# EAGLE library part USB4500-03-0-A (library USB4500-03-0-A)
GCT (GLOBAL CONNECTOR TECHNOLOGY) - USB4500-03-0-A - USB Connector, USB Type C, USB 2.0, Receptacle, 16 Ways, Surface Mount, Through Hole Mount Source: Datasheet <https://componentsearchengine.com/Datasheets/2/USB4500-03-0-A.pdf>
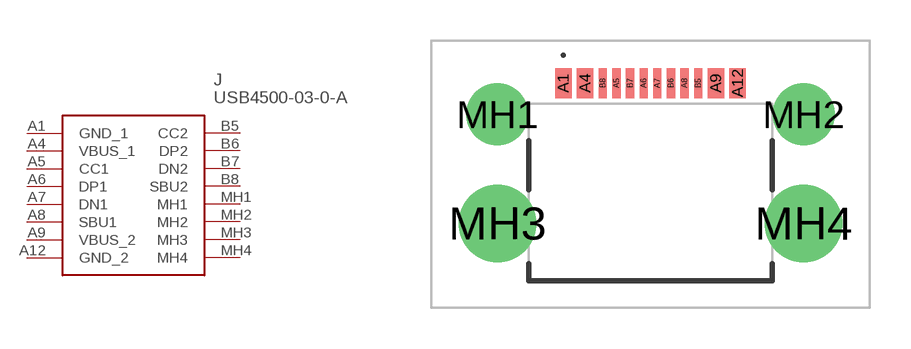
[diagram p0: symbol with the pads of USB4500030A; footprint USB4500030A]

Designator prefix J

## USB4500-03-0-A (Description: GCT (GLOBAL CONNECTOR TECHNOLOGY) - USB4500-03-0-A - USB Connector, USB Type C, USB 2.0, Receptacle, 16 Ways, Surface Mount, Through Hole Mount; Height: mm; Manufacturer_Name: GCT (GLOBAL CONNECTOR TECHNOLOGY); Manufacturer_Part_Number: USB4500-03-0-A)  [USB4500030A]
A1  GND_1
A4  VBUS_1
A5  CC1
A6  DP1
A7  DN1
A8  SBU1
A9  VBUS_2
A12  GND_2
B5  CC2
B6  DP2
B7  DN2
B8  SBU2
MH1  MH1
MH2  MH2
MH3  MH3
MH4  MH4

## Footprint USB4500030A (pad centres in mm)
USB4500-03-0-A-2
smd 0.6 x 1.1: A1 -3.2,4; A4 -2.4,4; A9 2.4,4; A12 3.2,4
smd 0.3 x 1.1: A5 -1.25,4; A6 -0.25,4; A7 0.25,4; A8 1.25,4; B5 1.75,4; B6 0.75,4; B7 -0.75,4; B8 -1.75,4
drill 1.52 pad 2.28: MH1 -5.62,2.85; MH2 5.62,2.85
drill 1.9 pad 2.85: MH3 -5.62,-1.15; MH4 5.62,-1.15